# Altium schematic symbol library MCU PIC.SchLib: 2 symbols
Pins are listed as number, name and electrical type; pins without a type are passive.

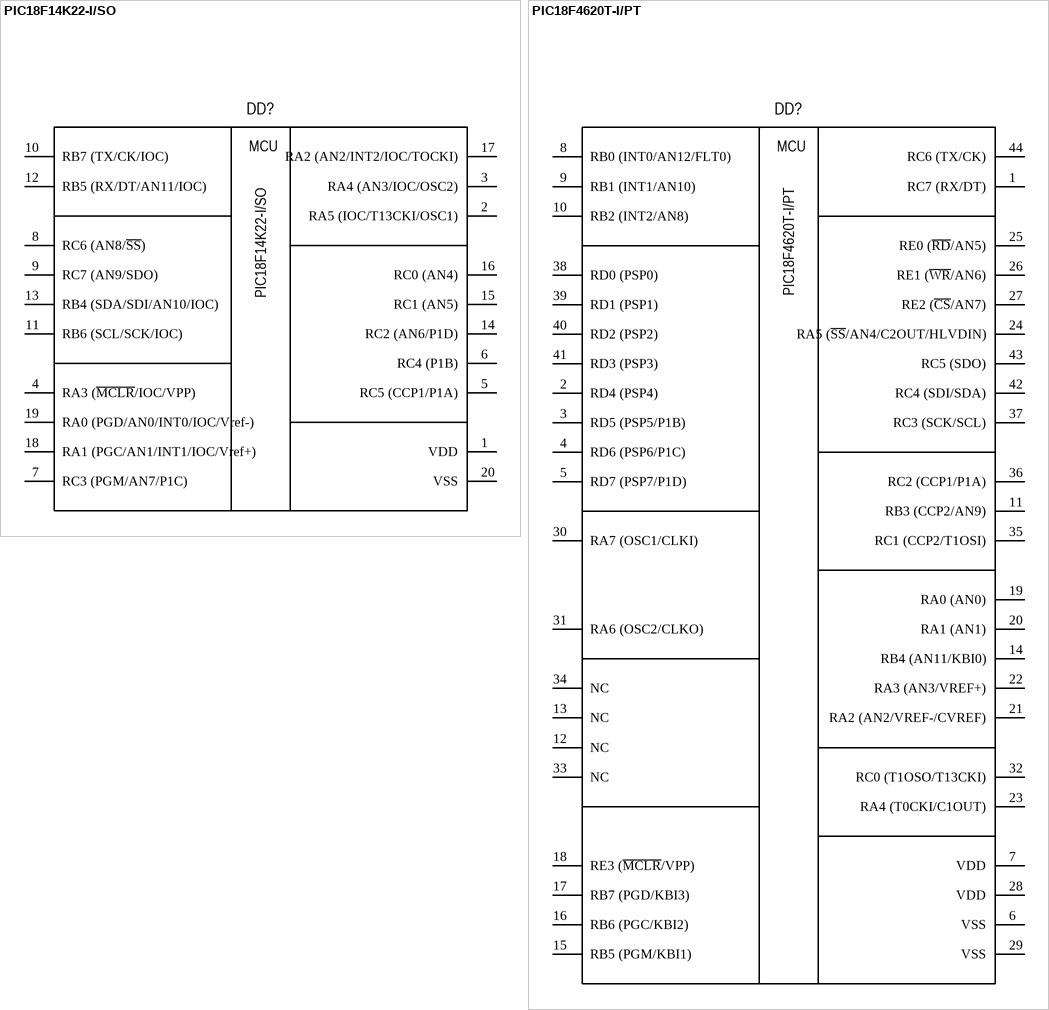
[diagram p0: symbols PIC18F14K22-I/SO to PIC18F4620T-I/PT]

## PIC18F14K22-I/SO
designator DD?
MCU PIC PIC18F14K22; Manufacturer: Microchip Technology; Group: Digital; Core size: 8 Bit; Speed: 64MHz; Connectivity: USART, SPI, I2C; Number of I/O: 17; Program memory size: 16KB; RAM size: 512B; Voltage supply: 2.3V - 5.5V; Data converters: ADC10bx12, ACx2; EEPROM size: 256B; Clock sources: TC16x3, TC8; Component: MCU PIC; Package: SOIC-20; Part name: PIC18F14K22-I/SO; Operating temperature: -40°C +85°C; Height: 2.65mm; Dimension: 10.30mm x 12.80mm; Core processor: PIC; Mounting type: Surface mount
footprint SOIC-20N (Footprint not found)
pins: 1 VDD, 2 RA5 (IOC/T13CKI/OSC1), 3 RA4 (AN3/IOC/OSC2), 4 RA3 (~{MCLR}/IOC/VPP), 5 RC5 (CCP1/P1A), 6 RC4 (P1B), 7 RC3 (PGM/AN7/P1C), 8 RC6 (AN8/~{SS}), 9 RC7 (AN9/SDO), 10 RB7 (TX/CK/IOC), 11 RB6 (SCL/SCK/IOC), 12 RB5 (RX/DT/AN11/IOC), 13 RB4 (SDA/SDI/AN10/IOC), 14 RC2 (AN6/P1D), 15 RC1 (AN5), 16 RC0 (AN4), 17 RA2 (AN2/INT2/IOC/TOCKI), 18 RA1 (PGC/AN1/INT1/IOC/Vref+), 19 RA0 (PGD/AN0/INT0/IOC/Vref-), 20 VSS
text: MCU

## PIC18F4620T-I/PT
designator DD?
MCU PIC PIC18F4620; Manufacturer: Microchip Technology; Group: Digital; Core size: 8 Bit; Speed: 32MHz; Connectivity: USART, SPI, I2C; Number of I/O: 36; Program memory size: 64KB; RAM size: 3.8KB; Voltage supply: 4.2V - 5.5V; Data converters: ADC10bx13, ACx2; EEPROM size: 1KB; Clock sources: TC16x3, TC8; Component: MCU PIC; Package: TQFP-44; Part name: PIC18F4620T-I/PT; Operating temperature: -40°C +85°C; Height: 1.20mm; Dimension: 12.00mm x 12.00mm; Core processor: PIC; Mounting type: Surface mount
footprint TQFP-44 N
pins: 1 RC7 (RX/DT), 2 RD4 (PSP4), 3 RD5 (PSP5/P1B), 4 RD6 (PSP6/P1C), 5 RD7 (PSP7/P1D), 6 VSS, 7 VDD, 8 RB0 (INT0/AN12/FLT0), 9 RB1 (INT1/AN10), 10 RB2 (INT2/AN8), 11 RB3 (CCP2/AN9), 12 NC, 13 NC, 14 RB4 (AN11/KBI0), 15 RB5 (PGM/KBI1), 16 RB6 (PGC/KBI2), 17 RB7 (PGD/KBI3), 18 RE3 (~{MCLR}/VPP), 19 RA0 (AN0), 20 RA1 (AN1), 21 RA2 (AN2/VREF-/CVREF), 22 RA3 (AN3/VREF+), 23 RA4 (T0CKI/C1OUT), 24 RA5 (~{SS}/AN4/C2OUT/HLVDIN), 25 RE0 (~{RD}/AN5), 26 RE1 (~{WR}/AN6), 27 RE2 (~{CS}/AN7), 28 VDD, 29 VSS, 30 RA7 (OSC1/CLKI), 31 RA6 (OSC2/CLKO), 32 RC0 (T1OSO/T13CKI), 33 NC, 34 NC, 35 RC1 (CCP2/T1OSI), 36 RC2 (CCP1/P1A), 37 RC3 (SCK/SCL), 38 RD0 (PSP0), 39 RD1 (PSP1), 40 RD2 (PSP2), 41 RD3 (PSP3), 42 RC4 (SDI/SDA), 43 RC5 (SDO), 44 RC6 (TX/CK)
text: MCU